# Altium footprint library PCB - CONNECTOR - JST - JST SM07B-SRSS-TB.PCBLIB: 1 footprints
Each footprint in its own frame and in the unit in brackets; x right, y up, seen from the top. Pads: shape width x height; smd on the part's side, far side on the other; paste and mask are expansions set on the pad; w line width, h text height; cw(c..) or ccw(c..) is an arc to the next point about the centre after c.
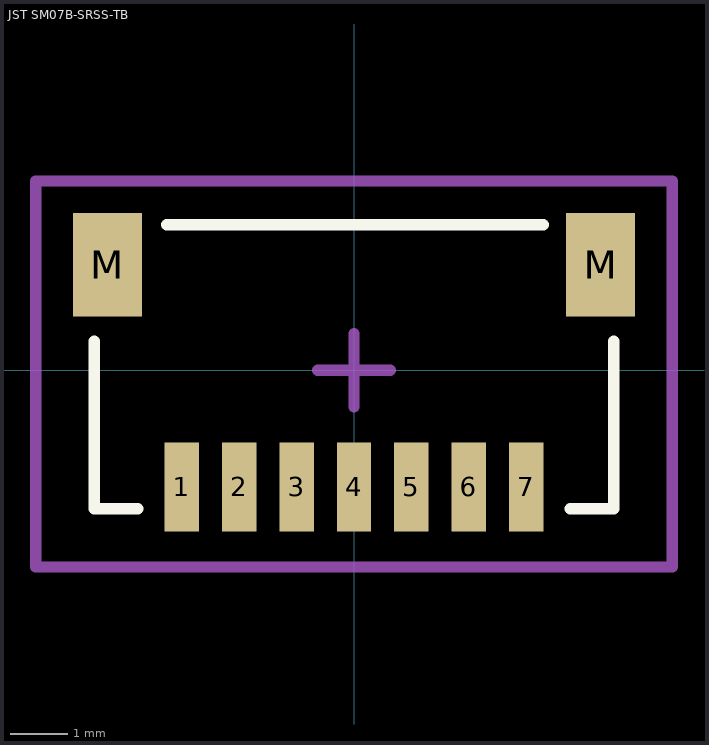
[diagram p0: the footprint, top view; thin cyan lines are the x and y axes]

## JST SM07B-SRSS-TB [mm] "1.0mm pitch/Disconnectable Crimp style connector"
height 2.95
pads (9):
  rect 0.6x1.55 smd: 1(-3,-2.032) 2(-2,-2.032) 3(-1,-2.032) 4(0,-2.032) 5(1,-2.032) 6(2,-2.032) 7(3,-2.032)
  rect 1.2x1.8 smd: M(-4.3,1.843) M(4.3,1.843)
Top Overlay:
  lines w0.2: -4.532,0.508 -4.532,-2.413 -3.77,-2.413 ; -3.262,2.54 3.302,2.54 ; 3.77,-2.413 4.532,-2.413 4.532,0.508
Mechanical 15:
  lines w0.2: -0.635,0 0.635,0 ; 0,-0.635 0,0.635 ; -5.548,-3.429 -5.548,3.302 5.548,3.302 5.548,-3.429 -5.548,-3.429
3D body "JST SM07B-SRSS-TB.STEP": height 2.95, standoff -0.01, extent -4.5,-2.383 4.5,2.567